# EAGLE library part SN74AHCT125D (library parts)
QUADRUPLE BUS BUFFER GATES WITH 3-STATE OUTPUTS
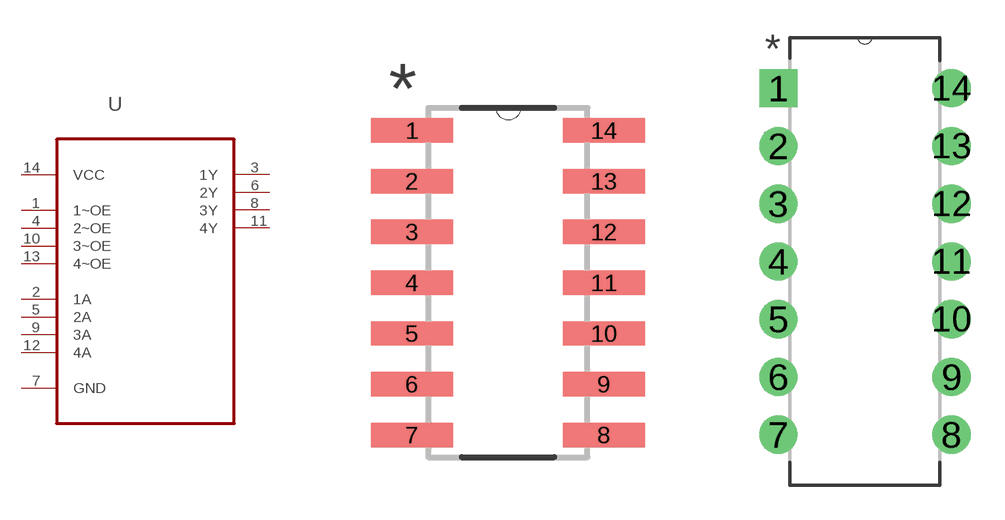
[diagram p0: symbol with the pads of SOIC127P600X175-14N; footprints SOIC127P600X175-14N, DIP254P762X508-14]

Designator prefix U

## SN74AHCT125D (MPN: SN74AHCT125D; OC_FARNELL: 1287453; OC_NEWARK: 76C1498; PACKAGE: SOIC-14; SUPPLIER: Texas Instruments)  [SOIC127P600X175-14N]
1  1~OE  in
2  1A  in
3  1Y  out
4  2~OE  in
5  2A  in
6  2Y  out
7  GND  pas
8  3Y  out
9  3A  in
10  3~OE  in
11  4Y  out
12  4A  in
13  4~OE  in
14  VCC  pwr

## SN74AHCT125DSN74HCT125N  [DIP254P762X508-14]
Pads as for SOIC127P600X175-14N

## Footprint SOIC127P600X175-14N (pad centres in mm)
smd 2.057 x 0.61: 1 -4.801,7.62; 2 -4.801,6.35; 3 -4.801,5.08; 4 -4.801,3.81; 5 -4.801,2.54; 6 -4.801,1.27; 7 -4.801,0; 8 0,0; 9 0,1.27; 10 0,2.54; 11 0,3.81; 12 0,5.08; 13 0,6.35; 14 0,7.62

## Footprint DIP254P762X508-14 (pad centres in mm)
drill 1.118 square: 1 -7.62,15.24
drill 1.118: 2 -7.62,12.7; 3 -7.62,10.16; 4 -7.62,7.62; 5 -7.62,5.08; 6 -7.62,2.54; 7 -7.62,0; 8 0,0; 9 0,2.54; 10 0,5.08; 11 0,7.62; 12 0,10.16; 13 0,12.7; 14 0,15.24